# Altium footprint library PO_SS_Lib.PcbLib: 41 footprints (part 1 of 3)
Each footprint in its own frame and in the unit in brackets; x right, y up, seen from the top. Pads: shape width x height; smd on the part's side, far side on the other; paste and mask are expansions set on the pad; w line width, h text height; cw(c..) or ccw(c..) is an arc to the next point about the centre after c.
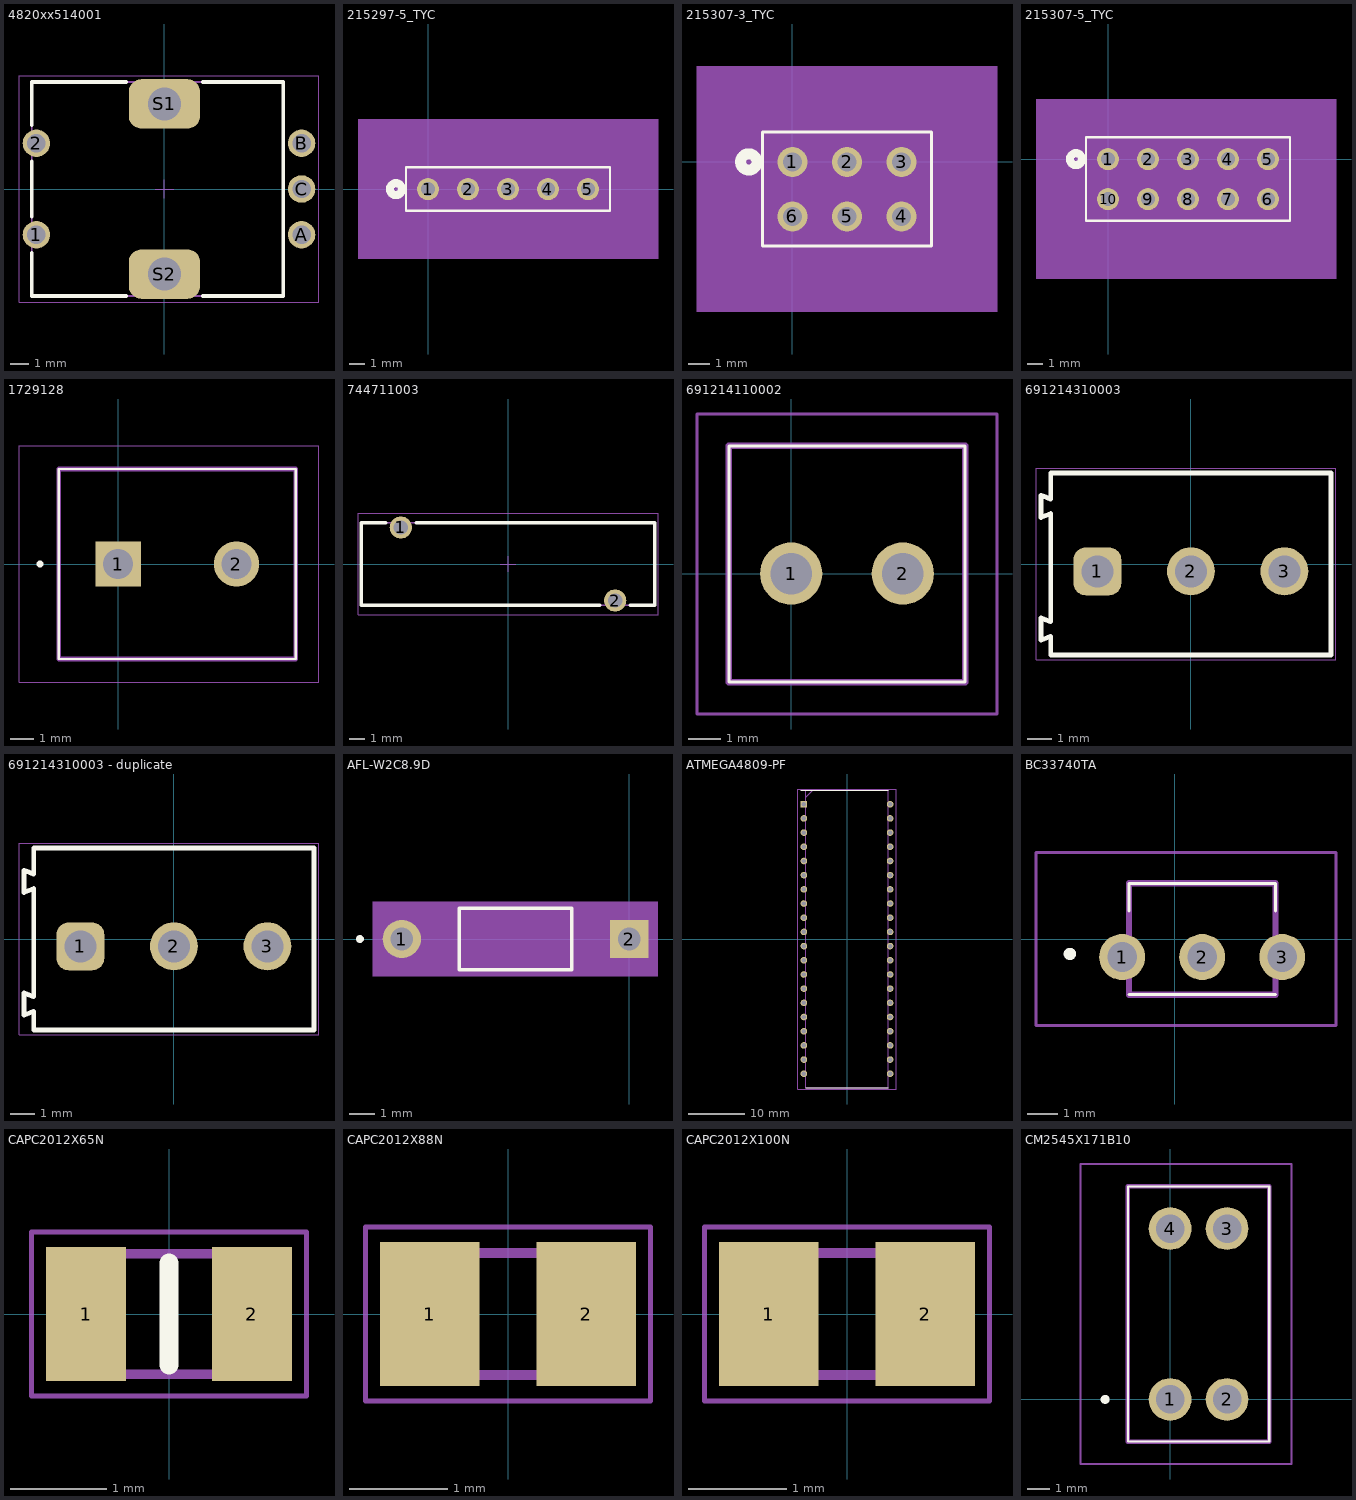
[diagram p0: the footprints below, top view; thin cyan lines are the x and y axes]

## 4820xx514001 [mm] "20 pulse with 20 Detent, half  cut shaft with Bushing, THT vertical  Encoder, with switch Function"
height 26.9
pads (7):
  round 1.5 hole 1: 1(-7,-2.5) 2(-7,2.5) A(7.5,-2.5) B(7.5,2.5) C(7.5,0)
  rrect50% 3.9x2.7 hole 1.8 square: S1(0,4.65) S2(0,-4.65)
Top Overlay:
  lines w0.2: -7.25,-3.5 -7.25,-5.85 -2.1,-5.85 ; -7.25,-1.5 -7.25,1.5 ; -7.25,3.5 -7.25,5.85 -2.1,5.85 ; 2.1,-5.85 6.5,-5.85 6.5,5.85 2.1,5.85
Top Assembly:
  lines w0.1: -7.25,-5.85 -7.25,5.85 6.5,5.85 6.5,-5.85 -7.25,-5.85
  text ".Designator" at -1.75,-0.75 h1.5
Mechanical 13:
  lines w0.1: -7.25,-5.85 6.5,-5.85 6.5,5.85 -7.25,5.85 -7.25,-5.85
Mechanical 15:
  lines w0.05: -0.5,0 0.5,0 ; 0,-0.5 0,0.5 ; -7.95,-6.2 8.45,-6.2 8.45,6.2 -7.95,6.2 -7.95,-6.2
3D body "4820xx514001.stp": height 26.65, standoff -3.45, extent -7.3,-5.85 7.6,5.85

## 215297-5_TYC [mil]
pads (5):
  round 55 hole 35 mask+0: 1(0,0) 2(100,0) 3(200,0) 4(300,0) 5(400,0)
Top Overlay:
  circle w20: c-80,0 r15
  lines w6: -55,-54.21 455,-54.21 455,55 -55,55 -55,-54.21
Bottom Overlay:
  circle w20: c-80,0 r15
Mechanical 5:
  region: -175,175 575,175 575,-174.21 -175,-174.21
Mechanical 13:
  circle w20: c0,75 r15
  lines w1: -50,-49.21 450,-49.21 450,50 -50,50 -50,-49.21
Mechanical 15:
  region: 460,60 -60,60 -60,-59.21 460,-59.21
  lines w6: -60,-59.21 -60,60 460,60 460,-59.21 -60,-59.21
3D body: height 10, standoff 0, extent 0,0 10,10

## 215307-3_TYC [mil]
pads (6):
  round 55 hole 35 mask+0: 1(0,0) 2(100,0) 3(200,0) 4(200,-100) 5(100,-100) 6(0,-100)
Top Overlay:
  circle w20: c-80,0 r15
  lines w6: -55,-154.21 -55,55 255,55 255,-154.21 -55,-154.21
Bottom Overlay:
  circle w20: c-80,0 r15
Mechanical 5:
  region: -175,175 375,175 375,-274.21 -175,-274.21
Mechanical 13:
  circle w20: c0,75 r15
  lines w1: -50,-149.21 -50,50 250,50 250,-149.21 -50,-149.21
Mechanical 15:
  region: 260,60 -60,60 -60,-159.21 260,-159.21
  lines w6: -60,-159.21 260,-159.21 260,60 -60,60 -60,-159.21
3D body: height 10, standoff 0, extent 0,0 10,10

## 215307-5_TYC [mil]
pads (10):
  round 55 hole 35 mask+0: 1(0,0) 2(100,0) 3(200,0) 4(300,0) 5(400,0) 6(400,-100) 7(300,-100) 8(200,-100) 9(100,-100) 10(0,-100)
Top Overlay:
  circle w20: c-80,0 r15
  lines w6: -55,-154.21 455,-154.21 455,55 -55,55 -55,-154.21
Bottom Overlay:
  circle w20: c-80,0 r15
Mechanical 5:
  region: -180,150 570,150 570,-299.21 -180,-299.21
Mechanical 13:
  circle w20: c0,75 r15
  lines w1: -50,-149.21 450,-149.21 450,50 -50,50 -50,-149.21
Mechanical 15:
  region: 460,60 -60,60 -60,-159.21 460,-159.21
  lines w6: -60,-159.21 -60,60 460,60 460,-159.21 -60,-159.21
3D body: height 10, standoff 0, extent 0,0 10,10

## 1729128 [mm]
pads (2):
  rect 1.95x1.95 hole 1.3: 1(0,0)
  round 1.95 hole 1.3: 2(5.08,0)
Top Overlay:
  circle w0.2: c-3.35,0 r0.05
  lines w0.1: -2.54,-4.075 -2.54,4.075 7.62,4.075 7.62,-4.075 -2.54,-4.075
Mechanical 13:
  lines w0.2: -2.54,-4.075 -2.54,4.075 7.62,4.075 7.62,-4.075 -2.54,-4.075
Mechanical 15:
  lines w0.05: -4.25,-5.075 -4.25,5.075 8.62,5.075 8.62,-5.075 -4.25,-5.075
3D body "1729128.stp": height 4.05, standoff -4.05, extent -3.067,-9.897 7.493,3.603

## 744711003 [mm] "Rod Core Choke, THT, 2-leads"
height 5.2
pads (2):
  round 1.4 hole 0.9: 1(-6.75,2.3) 2(6.75,-2.3)
Top Overlay:
  lines w0.2: -7.7,2.6 -9.25,2.6 -9.25,-2.6 5.8,-2.6 ; -5.8,2.6 9.25,2.6 9.25,-2.6 7.7,-2.6
Top Assembly:
  lines w0.1: -9.25,-2.6 9.25,-2.6 9.25,2.6 -9.25,2.6 -9.25,-2.6
  text ".Designator" at -1.75,-0.75 h1.5
Mechanical 13:
  lines w0.1: -9.25,-2.6 -9.25,2.6 9.25,2.6 9.25,-2.6 -9.25,-2.6
Mechanical 15:
  lines w0.05: -0.5,0 0.5,0 ; 0,-0.5 0,0.5 ; -9.45,-3.2 9.45,-3.2 9.45,3.2 -9.45,3.2 -9.45,-3.2
3D body "744711003.stp": height 5.2, standoff -2.9, extent -9,-2.55 9,2.55

## 691214110002 [mm]
pads (2):
  round 1.95 hole 1.3: 1(0,0) 2(3.5,0)
Top Overlay:
  lines w0.1: -1.95,-3.4 -1.95,4 5.45,4 5.45,-3.4 -1.95,-3.4
Mechanical 13:
  lines w0.2: -1.95,-3.4 -1.95,4 5.45,4 5.45,-3.4 -1.95,-3.4
Mechanical 15:
  lines w0.1: -2.95,-4.4 -2.95,5 6.45,5 6.45,-4.4 -2.95,-4.4
3D body "691214110002.stp": height 8.8, standoff -5, extent -1.95,-3.4 5.45,4

## 691214310003 [mm] "3,81mm - Horizontal wire entry - Rising cage clamp - 03p"
height 8.5
pads (3):
  rrect50% 1.95x1.95 hole 1.3: 1(-3.81,-0.3)
  round 1.95 hole 1.3: 2(0,-0.3) 3(3.81,-0.3)
Top Overlay:
  lines w0.2: -6.11,-3.1 -5.71,-2.95 -5.71,-3.7 5.71,-3.7 5.71,3.7 -5.71,3.7 -5.71,2.65 -6.11,2.8 -6.11,1.9 -5.71,2.05 -5.71,-2.35 -6.11,-2.2 -6.11,-3.1
Top Assembly:
  lines w0.1: -6.11,-3.1 -6.11,-2.2 -5.71,-2.35 -5.71,2.05 -6.11,1.9 -6.11,2.8 -5.71,2.65 -5.71,3.7 5.71,3.7 5.71,-3.7 -5.71,-3.7 -5.71,-2.95 -6.11,-3.1
  text ".Designator" at -1.75,-0.75 h1.5
Mechanical 13:
  lines w0.1: -6.11,-3.1 -5.71,-2.95 -5.71,-3.7 5.71,-3.7 5.71,3.7 -5.71,3.7 -5.71,2.65 -6.11,2.8 -6.11,1.9 -5.71,2.05 -5.71,-2.35 -6.11,-2.2 -6.11,-3.1
Mechanical 15:
  lines w0.05: -0.5,0 0.5,0 ; 0,-0.5 0,0.5 ; -6.31,-3.9 -6.31,3.9 5.91,3.9 5.91,-3.9 -6.31,-3.9
3D body "691214310003.stp": height 8.55, standoff -3.75, extent -6.12,-3.7 5.71,3.7

## 691214310003 - duplicate [mm] "3,81mm - Horizontal wire entry - Rising cage clamp - 03p"
height 8.5
pads (3):
  rrect50% 1.95x1.95 hole 1.3: 1(-3.81,-0.3)
  round 1.95 hole 1.3: 2(0,-0.3) 3(3.81,-0.3)
Top Overlay:
  lines w0.2: -6.11,-3.1 -5.71,-2.95 -5.71,-3.7 5.71,-3.7 5.71,3.7 -5.71,3.7 -5.71,2.65 -6.11,2.8 -6.11,1.9 -5.71,2.05 -5.71,-2.35 -6.11,-2.2 -6.11,-3.1
Top Assembly:
  lines w0.1: -6.11,-3.1 -6.11,-2.2 -5.71,-2.35 -5.71,2.05 -6.11,1.9 -6.11,2.8 -5.71,2.65 -5.71,3.7 5.71,3.7 5.71,-3.7 -5.71,-3.7 -5.71,-2.95 -6.11,-3.1
  text ".Designator" at -1.75,-0.75 h1.5
Mechanical 13:
  lines w0.1: -6.11,-3.1 -5.71,-2.95 -5.71,-3.7 5.71,-3.7 5.71,3.7 -5.71,3.7 -5.71,2.65 -6.11,2.8 -6.11,1.9 -5.71,2.05 -5.71,-2.35 -6.11,-2.2 -6.11,-3.1
Mechanical 15:
  lines w0.05: -0.5,0 0.5,0 ; 0,-0.5 0,0.5 ; -6.31,-3.9 -6.31,3.9 5.91,3.9 5.91,-3.9 -6.31,-3.9
3D body "691214310003.stp": height 8.55, standoff -3.75, extent -6.12,-3.7 5.71,3.7

## AFL-W2C8.9D [mil]
pads (2):
  round 59 hole 35: 1(-350.4,0)
  rect 59x59 hole 35: 2(0,0)
Top Overlay:
  circle w6: c-414.9,0 r3
  lines w6: -261.92,-47.32 -261.92,47.32 -88.48,47.32 -88.48,-47.32 -261.92,-47.32
Mechanical 5:
  region: 44.5,-57.32 -394.9,-57.32 -394.9,57.32 44.5,57.32
Mechanical 13:
  circle w0: c-246.92,0 r3
  lines w1: -350.4,0 -256.92,0 ; -93.48,0 0,0 ; -256.92,-42.32 -256.92,42.32 -93.48,42.32 -93.48,-42.32 -256.92,-42.32
Mechanical 15:
  region: -266.92,-39.5 -389.9,-39.5 -389.9,39.5 -266.92,39.5 -266.92,52.32 -83.48,52.32 -83.48,39.5 39.5,39.5 39.5,-39.5 -83.48,-39.5 -83.48,-52.32 -266.92,-52.32
  lines w6: -389.9,-39.5 -266.92,-39.5 -266.92,-52.32 -83.48,-52.32 -83.48,-39.5 39.5,-39.5 39.5,39.5 -83.48,39.5 -83.48,52.32 -266.92,52.32 -266.92,39.5 -389.9,39.5 -389.9,-39.5
3D body "AFL-W2C89D.step": height 84.69, standoff -110, extent -354.49,-42.42 24.88,42.42
3D body: height 10, standoff 0, extent 0,0 10,10

## ATMEGA4809-PF [mm]
pads (40):
  rect 1.184x1.184 hole 0.784: 1(-7.715,24.13)
  round 1.184 hole 0.784: 2(-7.715,21.59) 3(-7.715,19.05) 4(-7.715,16.51) 5(-7.715,13.97) 6(-7.715,11.43) 7(-7.715,8.89) 8(-7.715,6.35) 9(-7.715,3.81) 10(-7.715,1.27) 11(-7.715,-1.27) 12(-7.715,-3.81) 13(-7.715,-6.35) 14(-7.715,-8.89) 15(-7.715,-11.43) 16(-7.715,-13.97) 17(-7.715,-16.51) 18(-7.715,-19.05) 19(-7.715,-21.59) 20(-7.715,-24.13) 21(7.715,-24.13) 22(7.715,-21.59) 23(7.715,-19.05) 24(7.715,-16.51) 25(7.715,-13.97) 26(7.715,-11.43) 27(7.715,-8.89) 28(7.715,-6.35) 29(7.715,-3.81) 30(7.715,-1.27) 31(7.715,1.27) 32(7.715,3.81) 33(7.715,6.35) 34(7.715,8.89) 35(7.715,11.43) 36(7.715,13.97) 37(7.715,16.51) 38(7.715,19.05) 39(7.715,21.59) 40(7.715,24.13)
Top Overlay:
  lines w0.2: -8.307,26.606 7.366,26.606 ; -7.366,-26.606 7.366,-26.606
Mechanical 13:
  lines w0.1: -7.366,25.336 -6.096,26.606 ; -7.366,-26.606 -7.366,26.606 7.366,26.606 7.366,-26.606 -7.366,-26.606
Mechanical 15:
  lines w0.05: -8.78,-26.856 -8.78,26.856 8.78,26.856 8.78,-26.856 -8.78,-26.856
3D body "ATMEGA4809-PF.stp": height 6.35, standoff -3.5, extent -7.861,-25.876 7.861,25.876

## BC33740TA [mm]
pads (3):
  round 1.493 hole 0.96: 1(-1.7,-0.585) 2(0.9,-0.585) 3(3.5,-0.585)
Top Overlay:
  lines w0.1: -1.48,-1.81 3.28,-1.81 ; -1.48,0.915 -1.48,1.81 3.28,1.81 3.28,0.915
  lines w0.2: -3.4,-0.585 cw(c-3.4,-0.485) -3.4,-0.385 cw(c-3.4,-0.485) -3.4,-0.585
Mechanical 13:
  lines w0.2: -1.48,-1.81 3.28,-1.81 3.28,1.81 -1.48,1.81 -1.48,-1.81
Mechanical 15:
  lines w0.1: -4.5,-2.81 5.247,-2.81 5.247,2.81 -4.5,2.81 -4.5,-2.81
3D body "BC557ATA.stp": height 8.67, standoff -13.1, extent -2.2,-2.42 3.96,1.71

## CAPC2012X65N [mm]
pads (2):
  rect 0.83x1.39 smd: 1(-0.86,0) 2(0.86,0)
Top Overlay:
  lines w0.2: 0,-0.525 0,0.525
Mechanical 13:
  lines w0.1: -1,-0.625 -1,0.625 1,0.625 1,-0.625 -1,-0.625
Mechanical 15:
  lines w0.05: -1.425,-0.85 -1.425,0.85 1.425,0.85 1.425,-0.85 -1.425,-0.85
3D body "ESR10EZPJ472.stp": height 0.65, standoff 0, extent -1,-0.625 1,0.625

## CAPC2012X88N [mm]
pads (2):
  rect 1.02x1.47 smd: 1(-0.8,0) 2(0.8,0)
Mechanical 13:
  lines w0.1: -1,-0.625 -1,0.625 1,0.625 1,-0.625 -1,-0.625
Mechanical 15:
  lines w0.05: -1.46,-0.89 -1.46,0.89 1.46,0.89 1.46,-0.89 -1.46,-0.89
3D body "C0805C104K8RACAUTO.stp": height 0.88, standoff 0, extent -1,-0.625 1,0.625

## CAPC2012X100N [mm]
pads (2):
  rect 1.02x1.47 smd: 1(-0.8,0) 2(0.8,0)
Mechanical 13:
  lines w0.1: -1,-0.625 -1,0.625 1,0.625 1,-0.625 -1,-0.625
Mechanical 15:
  lines w0.05: -1.46,-0.89 -1.46,0.89 1.46,0.89 1.46,-0.89 -1.46,-0.89
3D body "C0805C103K1HACAUTO.stp": height 1, standoff 0, extent -1,-0.625 1,0.625

## CM2545X171B10 [mm]
pads (4):
  round 1.905 hole 1.27: 1(0,0) 2(2.54,0) 3(2.54,7.62) 4(0,7.62)
Top Overlay:
  lines w0.1: -1.88,-1.88 4.42,-1.88 4.42,9.5 -1.88,9.5 -1.88,-1.88
  lines w0.2: -3,0 ccw(c-2.9,0) -2.8,0 ccw(c-2.9,0) -3,0
Mechanical 13:
  lines w0.2: -1.88,-1.88 4.42,-1.88 4.42,9.5 -1.88,9.5 -1.88,-1.88
Mechanical 15:
  lines w0.1: -4,-2.88 5.42,-2.88 5.42,10.5 -4,10.5 -4,-2.88
3D body "CM2545X171B-10.stp": height 9.6, standoff -5, extent -1.88,-1.88 4.42,9.5